# EAGLE library part C-GRID-14 (library sibosop-con-molex)
CONNECTOR wire to board 2.54 mm (0.100") pitch header
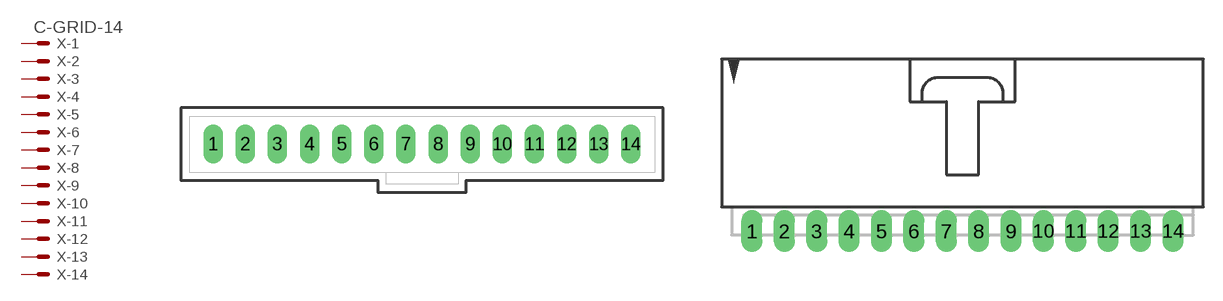
[diagram p53: symbol with the pads of 70543-14; footprints 70543-14, 70553-14]

Designator prefix X; gates -1=MV -2=M -3=M -4=M -5=M -6=M -7=M -8=M -9=M -10=M -11=M -12=M -13=M -14=M

## C-GRID-14-70543  [70543-14]
1  -1:S  pas
2  -2:S  pas
3  -3:S  pas
4  -4:S  pas
5  -5:S  pas
6  -6:S  pas
7  -7:S  pas
8  -8:S  pas
9  -9:S  pas
10  -10:S  pas
11  -11:S  pas
12  -12:S  pas
13  -13:S  pas
14  -14:S  pas

## C-GRID-14-70553  [70553-14]
Pads as for 70543-14

## C-GRID-14-74099  [74099-14]
Pads as for 70543-14

## C-GRID-14-15-91  [15-91-14]
Pads as for 70543-14

## Footprint 70543-14 (pad centres in mm)
C-Grid SL Connector vertical, 14 pin
drill 1.016 long: 1 -16.51,0; 2 -13.97,0; 3 -11.43,0; 4 -8.89,0; 5 -6.35,0; 6 -3.81,0; 7 -1.27,0; 8 1.27,0; 9 3.81,0; 10 6.35,0; 11 8.89,0; 12 11.43,0; 13 13.97,0; 14 16.51,0

## Footprint 70553-14 (pad centres in mm)
C-Grid SL Connector right angle, 14 pin
drill 1.092 long: 1 -16.51,-7.62; 2 -13.97,-7.62; 3 -11.43,-7.62; 4 -8.89,-7.62; 5 -6.35,-7.62; 6 -3.81,-7.62; 7 -1.27,-7.62; 8 1.27,-7.62; 9 3.81,-7.62; 10 6.35,-7.62; 11 8.89,-7.62; 12 11.43,-7.62; 13 13.97,-7.62; 14 16.51,-7.62

## Footprint 74099-14 (pad centres in mm)
C-Grid SL Connector vertical SMD, 14 pin
smd 1.27 x 3.175: 1 -16.51,-2.223; 2 -13.97,2.223; 3 -11.43,-2.223; 4 -8.89,2.223; 5 -6.35,-2.223; 6 -3.81,2.223; 7 -1.27,-2.223; 8 1.27,2.223; 9 3.81,-2.223; 10 6.35,2.223; 11 8.89,-2.223; 12 11.43,2.223; 13 13.97,-2.223; 14 16.51,2.223

## Footprint 15-91-14 (pad centres in mm)
C-Grid SL Connector right angle SMD, 14 pin
smd 1.651 x 5.334: 1 -16.51,-10.795; 2 -13.97,-10.795; 3 -11.43,-10.795; 4 -8.89,-10.795; 5 -6.35,-10.795; 6 -3.81,-10.795; 7 -1.27,-10.795; 8 1.27,-10.795; 9 3.81,-10.795; 10 6.35,-10.795; 11 8.89,-10.795; 12 11.43,-10.795; 13 13.97,-10.795; 14 16.51,-10.795
hole 3.404 at -17.907,0.838
hole 3.404 at 17.907,0.838